# Altium schematic symbol library ATxmega16A4.SchLib: 1 symbol
Pins are listed as number, name and electrical type; pins without a type are passive.

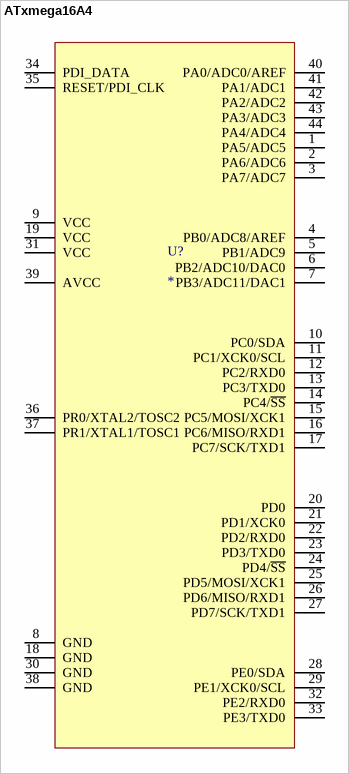
[diagram p0: symbol ATxmega16A4]

## ATxmega16A4
designator U?
Manufacturer: Atmel; Part No.: ATxmega16A4; Vendor: Digi-Key; Price Est.: $4.80
footprint TQFP-44 (TQFP, 44-Leads, Body 10x10mm)
footprint VQFN44 7x7 ATMEL (QFN, 44-Leads, Body 7x7mm)
footprint QFN-44 (VQFN 7x7 ATMEL, 44-Leads, Body 7x7mm)
pins: 1 PA5/ADC5, 2 PA6/ADC6, 3 PA7/ADC7, 4 PB0/ADC8/AREF, 5 PB1/ADC9, 6 PB2/ADC10/DAC0, 7 PB3/ADC11/DAC1, 8 GND, 9 VCC, 10 PC0/SDA, 11 PC1/XCK0/SCL, 12 PC2/RXD0, 13 PC3/TXD0, 14 PC4/~{SS}, 15 PC5/MOSI/XCK1, 16 PC6/MISO/RXD1, 17 PC7/SCK/TXD1, 18 GND, 19 VCC, 20 PD0, 21 PD1/XCK0, 22 PD2/RXD0, 23 PD3/TXD0, 24 PD4/~{SS}, 25 PD5/MOSI/XCK1, 26 PD6/MISO/RXD1, 27 PD7/SCK/TXD1, 28 PE0/SDA, 29 PE1/XCK0/SCL, 30 GND, 31 VCC, 32 PE2/RXD0, 33 PE3/TXD0, 34 PDI_DATA, 35 RESET/PDI_CLK, 36 PR0/XTAL2/TOSC2, 37 PR1/XTAL1/TOSC1, 38 GND, 39 AVCC, 40 PA0/ADC0/AREF, 41 PA1/ADC1, 42 PA2/ADC2, 43 PA3/ADC3, 44 PA4/ADC4